# EAGLE library part 23A1024/23LC1024 (library PP_DigitalIC)
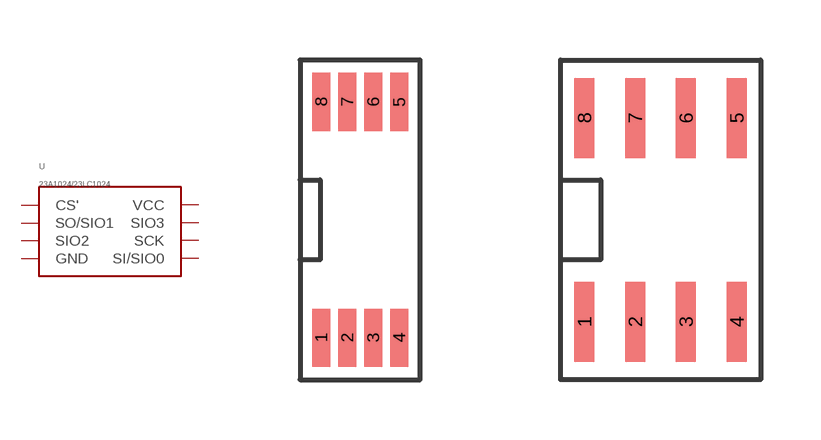
[diagram p12: symbol with the pads of TTSOP-8; footprints TTSOP-8, SOIC-8]

Designator prefix U

## 23A1024/23LC1024TTSOP-8  [TTSOP-8]
1  CS'
2  SO/SIO1
3  SIO2
4  GND
5  SI/SIO0
6  SCK
7  SIO3
8  VCC

## 23A1024/23LC1024SOIC-8  [SOIC-8]
Pads as for TTSOP-8

## Footprint TTSOP-8 (pad centres in mm)
smd 0.45 x 1.45: 1 -0.975,-2.95; 2 -0.325,-2.95; 3 0.325,-2.95; 4 0.975,-2.95; 5 0.975,2.95; 6 0.325,2.95; 7 -0.325,2.95; 8 -0.975,2.95

## Footprint SOIC-8 (pad centres in mm)
smd 0.5 x 2: 1 -1.905,-2.55; 2 -0.635,-2.55; 3 0.635,-2.55; 4 1.905,-2.55; 5 1.905,2.55; 6 0.635,2.55; 7 -0.635,2.55; 8 -1.905,2.55